# Altium schematic symbol library IP5189T.SchLib: 1 symbol
Pins are listed as number, name and electrical type; pins without a type are passive.

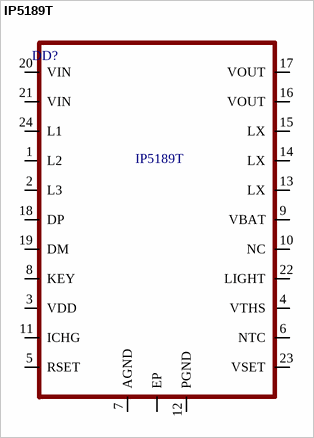
[diagram p0: symbol IP5189T]

## IP5189T
designator DD?
pins: 1 L2 , 2 L3, 3 VDD, 4 VTHS, 5 RSET, 6 NTC, 7 AGND, 8 KEY, 9 VBAT, 10 NC, 11 ICHG, 12 PGND, 13 LX, 14 LX, 15 LX, 16 VOUT, 17 VOUT, 18 DP, 19 DM, 20 VIN, 21 VIN, 22 LIGHT, 23 VSET, 24 L1, EP